# Altium footprint library Header-2x8-F_2mm_BottomEntry.PcbLib: 1 footprints
Each footprint in its own frame and in the unit in brackets; x right, y up, seen from the top. Pads: shape width x height; smd on the part's side, far side on the other; paste and mask are expansions set on the pad; w line width, h text height; cw(c..) or ccw(c..) is an arc to the next point about the centre after c.
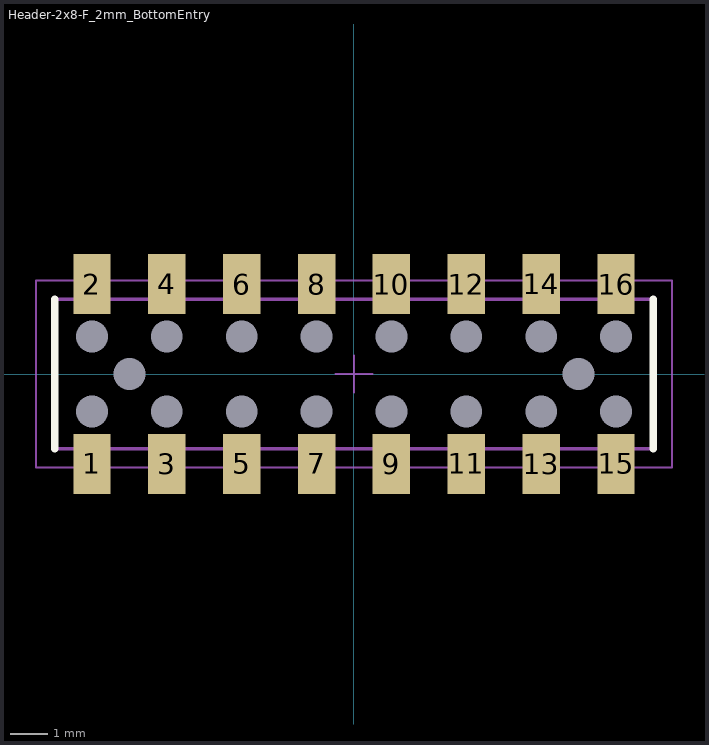
[diagram p0: the footprint, top view; thin cyan lines are the x and y axes]

## Header-2x8-F_2mm_BottomEntry [mm]
height 2.4
pads (34):
  rect 1x1.6 smd: 1(-7,-2.4) 2(-7,2.4) 3(-5,-2.4) 4(-5,2.4) 5(-3,-2.4) 6(-3,2.4) 7(-1,-2.4) 8(-1,2.4) 9(1,-2.4) 10(1,2.4) 11(3,-2.4) 12(3,2.4) 13(5,-2.4) 14(5,2.4) 15(7,-2.4) 16(7,2.4)
  round 0.8 hole 0.85 unplated: ""(-7,-1) ""(-7,1) ""(-6,0) ""(-5,-1) ""(-5,1) ""(-3,-1) ""(-3,1) ""(-1,-1) ""(-1,1) ""(1,-1) ""(1,1) ""(3,-1) ""(3,1) ""(5,-1) ""(5,1) ""(6,0) ""(7,-1) ""(7,1)
Top Overlay:
  lines w0.2: -8,-1.999 -8,2 ; 7.999,-2.001 7.999,1.999
Bottom Overlay:
  lines w0.2: -7.999,1.999 -7.999,-1.999 7.999,-1.999 7.999,2 -8,2
Mechanical 13:
  lines w0.05: -8.5,-2.5 8.5,-2.5 8.5,2.5 -8.5,2.5 -8.5,-2.5
  lines w0.1: -8,-2 -8,2 8,2 8,-2 -8,-2
Mechanical 15:
  lines w0.05: -0.5,0 0.5,0 ; 0,-0.5 0,0.5
3D body: height 2.4, standoff 0, extent -7.999,-1.999 7.999,1.999